# Altium footprint library IRF9640S.PcbLib: 3 footprints
Each footprint in its own frame and in the unit in brackets; x right, y up, seen from the top. Pads: shape width x height; smd on the part's side, far side on the other; paste and mask are expansions set on the pad; w line width, h text height; cw(c..) or ccw(c..) is an arc to the next point about the centre after c.
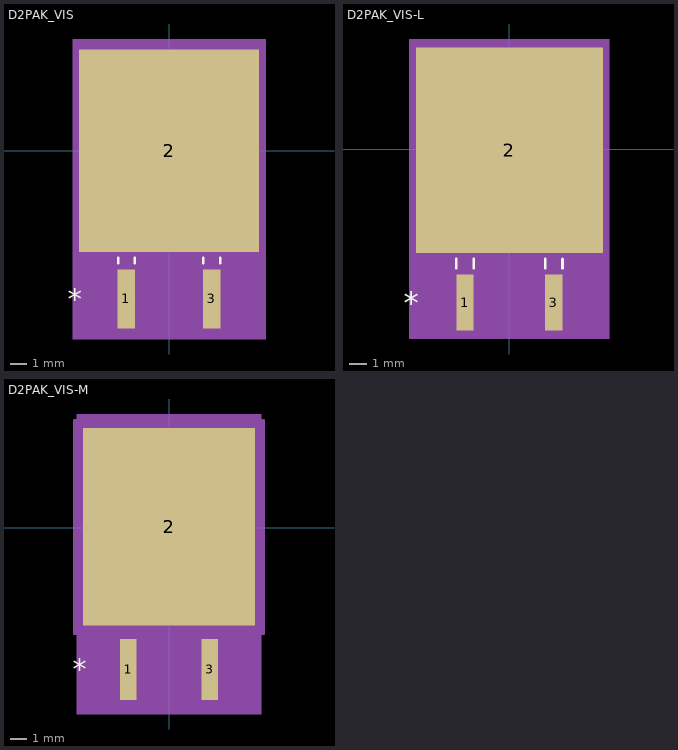
[diagram p0: the footprints below, top view; thin cyan lines are the x and y axes]

## D2PAK_VIS [mil]
pads (3):
  rect 41x138 smd paste+0 mask+0: 1(-100,-347) 3(100,-347)
  rect 422x474 smd paste+0 mask+0: 2(0,0)
Top Overlay:
  lines w6: -119.5,-264 -119.5,-250.1 ; -80.5,-264 -80.5,-250.1 ; 80.5,-264 80.5,-250.1 ; 119.5,-264 119.5,-250.1
  text "*" at -237.5,-372 h50
Mechanical 5:
  region: -226,262 226,262 226,-441 -226,-441
Mechanical 13:
  lines w1: -35,-223 -35,-293 35,-293 35,-223 ; -210,-223 210,-223 210,223 -210,223 -210,-223 ; -119.5,-402 -119.5,-223 -80.5,-223 -80.5,-402 -119.5,-402 ; 80.5,-402 80.5,-223 119.5,-223 119.5,-402 80.5,-402
  text "*" at -112.5,-238 h50
Mechanical 15:
  region: -129.5,-247 -222,-247 -222,247 222,247 222,-247 129.5,-247 129.5,-426 70.5,-426 70.5,-288 -70.5,-288 -70.5,-426 -129.5,-426
  lines w6: -222,-247 -222,247 222,247 222,-247 129.5,-247 129.5,-426 70.5,-426 70.5,-288 -70.5,-288 -70.5,-426 -129.5,-426 -129.5,-247 -222,-247
3D body "D2PAK_VIS.step": height 190.12, standoff -2.01, extent -210,-325.51 210,223.11

## D2PAK_VIS-L [mil]
pads (3):
  rect 39x126 smd paste+0 mask+0: 1(-100,-345) 3(100,-345)
  rect 420x462 smd paste+0 mask+0: 2(0,-2)
Top Overlay:
  lines w6: -119.5,-268 -119.5,-247 ; -80.5,-268 -80.5,-247 ; 80.5,-268 80.5,-247 ; 119.5,-268 119.5,-247
  text "*" at -237.5,-370 h50
Mechanical 5:
  region: -225,248 225,248 225,-427 -225,-427
Mechanical 13:
  lines w1: -35,-223 -35,-293 35,-293 35,-223 ; -210,-223 210,-223 210,223 -210,223 -210,-223 ; -119.5,-402 -119.5,-223 -80.5,-223 -80.5,-402 -119.5,-402 ; 80.5,-402 80.5,-223 119.5,-223 119.5,-402 80.5,-402
  text "*" at -112.5,-238 h50
Mechanical 15:
  region: -123.5,-237 -214,-237 -214,233 214,233 214,-237 123.5,-237 123.5,-412 76.5,-412 76.5,-286 -76.5,-286 -76.5,-412 -123.5,-412
  lines w6: -214,-237 -214,233 214,233 214,-237 123.5,-237 123.5,-412 76.5,-412 76.5,-286 -76.5,-286 -76.5,-412 -123.5,-412 -123.5,-237 -214,-237
3D body "D2PAK_VIS.step": height 190.12, standoff -2.01, extent -210,-325.51 210,223.11

## D2PAK_VIS-M [mil]
pads (3):
  rect 41x150 smd paste+0 mask+0: 1(-100,-349) 3(100,-349)
  rect 424x486 smd paste+0 mask+0: 2(0,2)
Top Overlay:
  text "*" at -237.5,-374 h50
Mechanical 5:
  region: -227,280 227,280 227,-459 -227,-459
Mechanical 13:
  lines w1: -35,-223 -35,-293 35,-293 35,-223 ; -210,-223 210,-223 210,223 -210,223 -210,-223 ; -119.5,-402 -119.5,-223 -80.5,-223 -80.5,-402 -119.5,-402 ; 80.5,-402 80.5,-223 119.5,-223 119.5,-402 80.5,-402
  text "*" at -112.5,-238 h50
Mechanical 15:
  region: -139.5,-261 -234,-261 -234,265 234,265 234,-261 139.5,-261 139.5,-444 60.5,-444 60.5,-294 -60.5,-294 -60.5,-444 -139.5,-444
  lines w6: -234,-261 -234,265 234,265 234,-261 139.5,-261 139.5,-444 60.5,-444 60.5,-294 -60.5,-294 -60.5,-444 -139.5,-444 -139.5,-261 -234,-261
3D body "D2PAK_VIS.step": height 190.12, standoff -2.01, extent -210,-325.51 210,223.11